# Altium schematic symbol library CC0805MKX5R8BB226.SchLib: 1 symbol
Pins are listed as number, name and electrical type; pins without a type are passive.

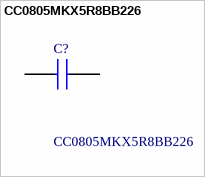
[diagram p0: symbol CC0805MKX5R8BB226]

## CC0805MKX5R8BB226
designator C?
Multilayer Ceramic Capacitors MLCC - SMD/SMT 25 V 22 uF X5R 0805 20%; Manufacturer_Name: Yageo Group; Geometry.Height: 1.45mm; Mouser Part Number: 603-CC805MKX5R8BB226; Mouser Price/Stock: https://www.mouser.co.uk/ProductDetail/YAGEO/CC0805MKX5R8BB226?qs=WS5Jv%252B%252Bx1qULWDK6O%2FQuig%3D%3D; Manufacturer_Part_Number: CC0805MKX5R8BB226; Datasheet Link: https://www.yageo.com/upload/media/product/productsearch/datasheet/mlcc/UPY-GPHC_X5R_4V-to-50V_26.pdf
footprint CAPC2012X145N
pins: 1, 2